# EAGLE library part OMNETICS_A79024 (library harrison)
Omnetics A79024 36-pin connector
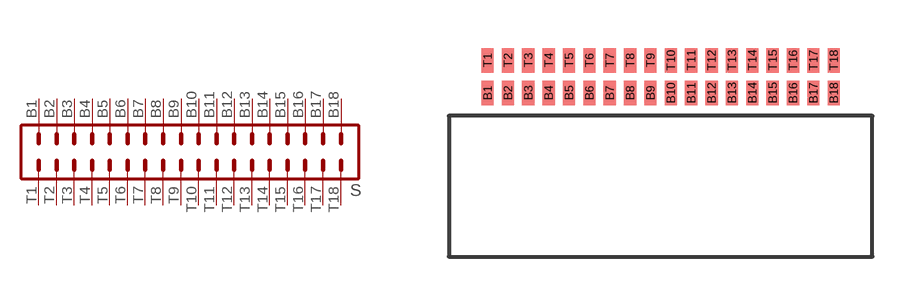
[diagram p83: symbol with the pads of OMNETICS_A79024; footprint OMNETICS_A79024]

Designator prefix S

## OMNETICS_A79024  [OMNETICS_A79024]
B1  B1  pas
B2  B2  pas
B3  B3  pas
B4  B4  pas
B5  B5  pas
B6  B6  pas
B7  B7  pas
B8  B8  pas
B9  B9  pas
B10  B10  pas
B11  B11  pas
B12  B12  pas
B13  B13  pas
B14  B14  pas
B15  B15  pas
B16  B16  pas
B17  B17  pas
B18  B18  pas
T1  T1  pas
T2  T2  pas
T3  T3  pas
T4  T4  pas
T5  T5  pas
T6  T6  pas
T7  T7  pas
T8  T8  pas
T9  T9  pas
T10  T10  pas
T11  T11  pas
T12  T12  pas
T13  T13  pas
T14  T14  pas
T15  T15  pas
T16  T16  pas
T17  T17  pas
T18  T18  pas

## Footprint OMNETICS_A79024 (pad centres in mm)
smd 0.381 x 0.762: B1 -5.397,0.711; B2 -4.763,0.711; B3 -4.128,0.711; B4 -3.493,0.711; B5 -2.857,0.711; B6 -2.223,0.711; B7 -1.587,0.711; B8 -0.953,0.711; B9 -0.318,0.711; B10 0.318,0.711; B11 0.953,0.711; B12 1.587,0.711; B13 2.223,0.711; B14 2.857,0.711; B15 3.493,0.711; B16 4.128,0.711; B17 4.763,0.711; B18 5.397,0.711; T1 -5.397,1.727; T2 -4.763,1.727; T3 -4.128,1.727; T4 -3.493,1.727; T5 -2.857,1.727; T6 -2.223,1.727; T7 -1.587,1.727; T8 -0.953,1.727; T9 -0.318,1.727; T10 0.318,1.727; T11 0.953,1.727; T12 1.587,1.727; T13 2.223,1.727; T14 2.857,1.727; T15 3.493,1.727; T16 4.128,1.727; T17 4.763,1.727; T18 5.397,1.727